# Altium footprint library CustomComponents.PcbLib: 1 footprints
Each footprint in its own frame and in the unit in brackets; x right, y up, seen from the top. Pads: shape width x height; smd on the part's side, far side on the other; paste and mask are expansions set on the pad; w line width, h text height; cw(c..) or ccw(c..) is an arc to the next point about the centre after c.
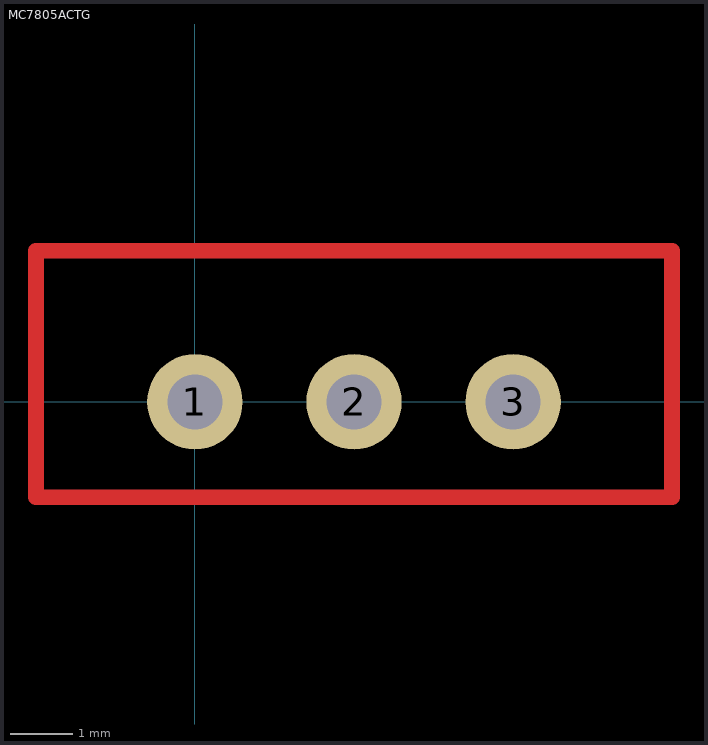
[diagram p0: the footprint, top view; thin cyan lines are the x and y axes]

## MC7805ACTG [mil]
pads (3):
  round 60 hole 34.65: 1(0,0) 2(100,0) 3(200,0)
Top Layer:
  lines w10: -100,-60 300,-60 300,95 -100,95 -100,-60